# Altium footprint library GCMPCBLibrerias.PcbLib: 43 footprints (part 1 of 3)
Each footprint in its own frame and in the unit in brackets; x right, y up, seen from the top. Pads: shape width x height; smd on the part's side, far side on the other; paste and mask are expansions set on the pad; w line width, h text height; cw(c..) or ccw(c..) is an arc to the next point about the centre after c.
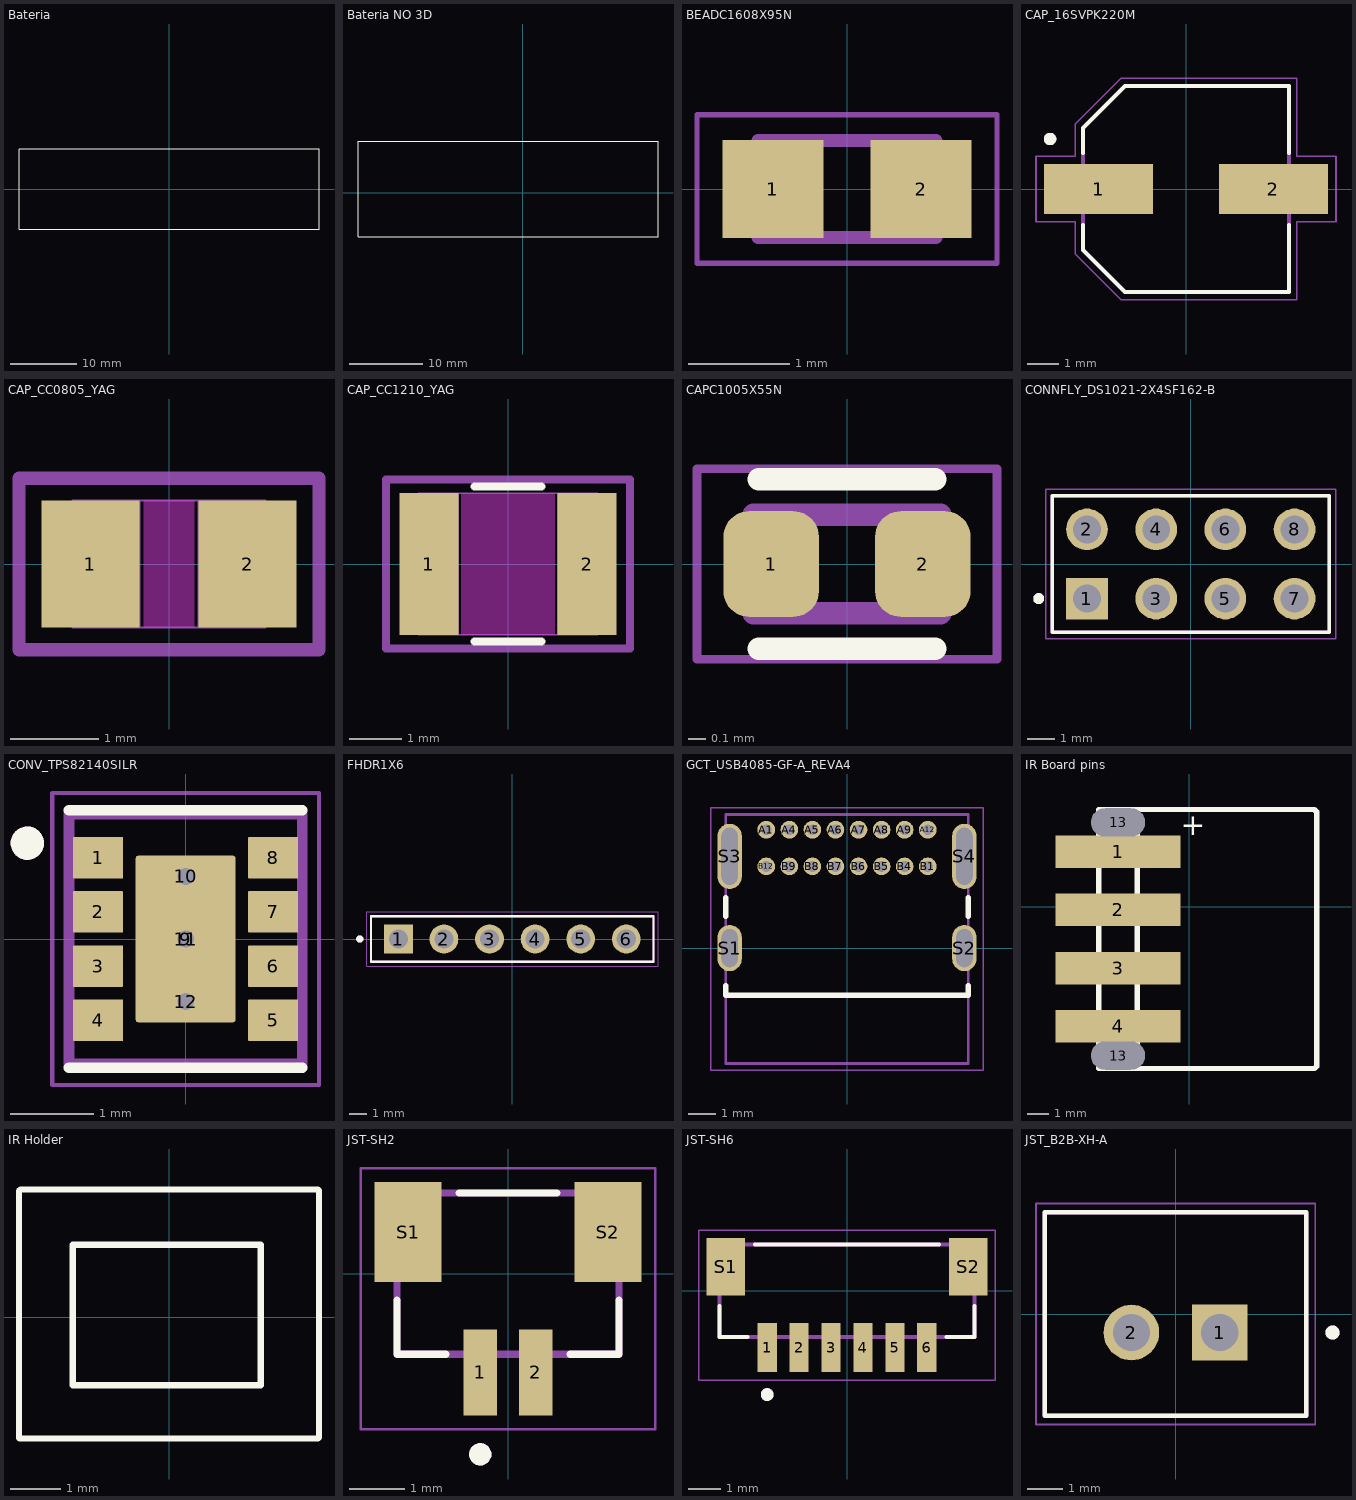
[diagram p0: the footprints below, top view; thin cyan lines are the x and y axes]

## Bateria [mm]
Top Overlay:
  lines w0.127: -22.5,-6.002 22.5,-6.002 22.5,5.998 ; -22.5,-6 -22.5,6 ; -22.5,6.063 22.5,6.063
3D body "Bateria.stp": height 16, standoff 0, extent -22.521,-5.937 22.479,6.063

## Bateria NO 3D [mm]
Top Overlay:
  lines w0.127: -22.5,-6.002 18.5,-6.002 18.5,6.998 -22.5,6.998 -22.5,-6.002

## BEADC1608X95N [mm]
pads (2):
  rect 1x0.97 smd: 1(-0.735,0) 2(0.735,0)
Mechanical 13:
  lines w0.127: -0.88,-0.48 0.88,-0.48 0.88,0.48 -0.88,0.48 -0.88,-0.48
Mechanical 15:
  lines w0.05: -1.485,-0.735 1.485,-0.735 1.485,0.735 -1.485,0.735 -1.485,-0.735
3D body "step_temp.STEP": height 0.95, standoff 0, extent -0.8,-0.4 0.8,0.4

## CAP_16SVPK220M [mm]
height 5.9
pads (2):
  rect 3.5x1.6 smd: 1(-2.8,0) 2(2.8,0)
Top Overlay:
  circle w0.2: c-4.35,1.6 r0.1
  lines w0.127: -3.3,-1.15 -3.3,-1.95 -1.95,-3.3 3.3,-3.3 3.3,-1.15 ; -3.3,1.15 -3.3,1.95 -1.95,3.3 3.3,3.3 3.3,1.15
Mechanical 13:
  circle w0.2: c-4.35,1.6 r0.1
  lines w0.127: -3.3,-1.95 -1.95,-3.3 3.3,-3.3 3.3,3.3 -1.95,3.3 -3.3,1.95 -3.3,-1.95
Mechanical 15:
  lines w0.05: -4.8,-1.05 -3.55,-1.05 -3.55,-2.075 -2.075,-3.55 3.55,-3.55 3.55,-1.05 4.8,-1.05 4.8,1.05 3.55,1.05 3.55,3.55 -2.075,3.55 -3.55,2.075 -3.55,1.05 -4.8,1.05 -4.8,-1.05
3D body "16SVPK220M.STEP": height 5.9, standoff 0, extent -3.617,-3.298 3.683,3.302

## CAP_CC0805_YAG [mil]
pads (2):
  rect 44x57 smd paste+0 mask+0: 1(-35.31,0) 2(35.31,0)
Top Layer keep-out:
  region: -11.31,-26.5 -11.31,26.5 11.31,26.5 11.31,-26.5
Keep-Out Layer:
  region: -11.31,-28.5 -11.31,28.5 11.31,28.5 11.31,-28.5
Mechanical 13:
  lines w1: -43.31,-28.5 -43.31,28.5 ; -43.31,-28.5 -13.31,-28.5 -13.31,28.5 -43.31,28.5 ; -43.31,-28.5 43.31,-28.5 ; -43.31,-28.5 -43.31,28.5 ; -43.31,28.5 43.31,28.5 ; 43.31,-28.5 13.31,-28.5 13.31,28.5 43.31,28.5 ; 43.31,-28.5 43.31,28.5 ; 43.31,-28.5 43.31,28.5
Mechanical 15:
  lines w6: -67.31,-38.5 -67.31,38.5 67.31,38.5 67.31,-38.5 -67.31,-38.5
3D body "CAP_CC0805_YAG.step": height 57.01, standoff 0, extent -43.31,-28.5 43.31,28.5

## CAP_CC1210_YAG [mil]
pads (2):
  rect 44x106 smd paste+0 mask+0: 1(-59,0) 2(59,0)
Top Layer keep-out:
  region: -35,-51 -35,51 35,51 35,-51
Top Overlay:
  lines w6: -24.89,-58 24.89,-58 ; -24.89,58 24.89,58
Keep-Out Layer:
  region: -35,-53 -35,53 35,53 35,-53
Mechanical 13:
  lines w1: -67,-53 -67,53 ; -67,-53 67,-53 ; -67,-53 -37,-53 -37,53 -67,53 ; -67,-53 -67,53 ; -67,53 67,53 ; 67,-53 67,53 ; 67,-53 67,53 ; 67,-53 37,-53 37,53 67,53
Mechanical 15:
  lines w6: -91,-63 91,-63 91,63 -91,63 -91,-63
3D body "CAP_CC1210_YAG.step": height 105.98, standoff 0, extent -67.01,-52.99 67.01,52.99

## CAPC1005X55N [mm]
pads (2):
  rrect53% 0.54x0.6 smd: 1(-0.43,0) 2(0.43,0)
Top Overlay:
  lines w0.127: -0.5,-0.48 0.5,-0.48 ; -0.5,0.48 0.5,0.48
Mechanical 13:
  lines w0.127: -0.53,-0.28 0.53,-0.28 0.53,0.28 -0.53,0.28 -0.53,-0.28
Mechanical 15:
  lines w0.05: -0.85,-0.54 0.85,-0.54 0.85,0.54 -0.85,0.54 -0.85,-0.54
3D body "step_temp.STEP": height 0.55, standoff 0, extent -0.5,-0.25 0.5,0.25

## CONNFLY_DS1021-2X4SF162-B [mm]
pads (8):
  rect 1.53x1.53 / inner round 1.53 / far side rect 1.53x1.53 hole 1.02 mask+0.102: 1(-3.81,-1.27)
  round 1.53 hole 1.02 mask+0.102: 2(-3.81,1.27) 3(-1.27,-1.27) 4(-1.27,1.27) 5(1.27,-1.27) 6(1.27,1.27) 7(3.81,-1.27) 8(3.81,1.27)
Top Overlay:
  circle w0.2: c-5.58,-1.27 r0.1
  lines w0.127: -5.08,-2.5 5.08,-2.5 5.08,2.5 -5.08,2.5 -5.08,-2.5
Mechanical 13:
  circle w0.2: c-5.58,-1.27 r0.1
  lines w0.127: -5.08,-2.5 -5.08,2.5 5.08,2.5 5.08,-2.5 -5.08,-2.5
Mechanical 15:
  lines w0.05: -5.33,-2.75 -5.33,2.75 5.33,2.75 5.33,-2.75 -5.33,-2.75
3D body "step_temp.STEP": height 7.5, standoff -3, extent -5.08,-2.5 5.08,2.5

## CONV_TPS82140SILR [mm]
pads (12):
  rrect5% 0.6x0.5 smd paste-1 mask+0: 1(-1.05,0.975) 2(-1.05,0.325) 3(-1.05,-0.325) 4(-1.05,-0.975) 5(1.05,-0.975) 6(1.05,-0.325) 7(1.05,0.325) 8(1.05,0.975)
  rrect5% 1.2x2 smd paste-2 mask+0: 9(0,0)
  round 0.45 hole 0.2 mask+0: 10(0,0.75) 11(0,0) 12(0,-0.75)
Top Overlay:
  circle w0.2: c-1.9,1.15 r0.1
  lines w0.127: -1.4,-1.545 1.4,-1.545 ; -1.4,1.545 1.4,1.545
Top Paste:
  drawing of 10 lines, arcs and shapes, not listed
Top Solder:
  drawing of 9 lines, arcs and shapes, not listed
Mechanical 13:
  circle w0.2: c-1.9,1.15 r0.1
  lines w0.127: -1.4,-1.5 -1.4,1.5 1.4,1.5 1.4,-1.5 -1.4,-1.5
Mechanical 15:
  lines w0.05: -1.6,-1.75 -1.6,1.75 1.6,1.75 1.6,-1.75 -1.6,-1.75
3D body "step_temp.STEP": height 1.53, standoff 0, extent -1.409,-1.492 1.391,1.508

## FHDR1X6 [mm]
pads (6):
  rect 1.605x1.605 / inner round 1.605 / far side rect 1.605x1.605 hole 1.07: 1(-6.35,0)
  round 1.605 hole 1.07: 2(-3.81,0) 3(-1.27,0) 4(1.27,0) 5(3.81,0) 6(6.35,0)
Top Overlay:
  circle w0.2: c-8.5,0 r0.1
  lines w0.127: -7.87,-1.27 -7.87,1.27 7.87,1.27 7.87,-1.27 -7.87,-1.27
Mechanical 13:
  circle w0.2: c-8.5,0 r0.1
  lines w0.127: -7.87,-1.27 -7.87,1.27 7.87,1.27 7.87,-1.27 -7.87,-1.27
Mechanical 15:
  lines w0.05: -8.12,-1.52 -8.12,1.52 8.12,1.52 8.12,-1.52 -8.12,-1.52
3D body "step_temp.STEP": height 8.51, standoff -3.2, extent -7.87,-1.27 7.878,1.27

## GCT_USB4085-GF-A_REVA4 [mm]
height 3.46
pads (20):
  round 0.65 hole 0.4: A1(-2.975,4.36) A4(-2.125,4.36) A5(-1.275,4.36) A6(-0.425,4.36) A7(0.425,4.36) A8(1.275,4.36) A9(2.125,4.36) A12(2.975,4.36) B1(2.975,3.01) B4(2.125,3.01) B5(1.275,3.01) B6(0.425,3.01) B7(-0.425,3.01) B8(-1.275,3.01) B9(-2.125,3.01) B12(-2.975,3.01)
  oval 0.9x1.7 hole 0.6 slot 1.4 at 90 deg: S1(-4.325,0) S2(4.325,0)
  oval 0.9x2.4 hole 0.6 slot 2.1 at 90 deg: S3(-4.325,3.38) S4(4.325,3.38)
Top Overlay:
  lines w0.2: -4.47,-1.39 -4.47,-1.74 4.47,-1.74 4.47,-1.39 ; -4.47,1.17 -4.47,1.85 ; 4.47,1.17 4.47,1.85
Mechanical 13:
  lines w0.1: -4.47,-4.25 -4.47,-1.74 -4.47,4.92 4.47,4.92 4.47,-4.25 -4.47,-4.25
Mechanical 15:
  lines w0.05: -5.025,-4.5 -5.025,5.17 5.025,5.17 5.025,-4.5 -5.025,-4.5
3D body "step_temp.STEP": height 3.46, standoff -2.1, extent -4.47,-4.25 4.47,4.92

## IR Board pins [mm]
pads (6):
  rect 5.8x1.5 smd: 1(-3.306,2.559) 2(-3.306,-0.141) 3(-3.306,-2.841) 4(-3.306,-5.541)
  rect 1x1 hole 1.3 slot 2.5 at 0 deg: 13(-3.306,-6.891) 13(-3.306,3.909)
Top Overlay:
  lines w0.254: -2.406,-7.491 5.791,-7.491 5.894,-7.388 5.894,-6.991 5.894,-1.491 5.894,4.009 5.894,4.401 5.786,4.509 -2.406,4.509 ; -2.406,-7.491 -4.206,-7.491 -4.206,-6.291 -4.206,-1.491 -4.206,3.309 -4.206,4.509 -2.406,4.509 ; -2.406,-7.491 -2.406,-6.291 -2.406,-1.491 -2.406,3.309 -2.406,4.509
  text "+" at -0.406,3.31 h1

## IR Holder [mm]
Top Overlay:
  lines w0.127: -3.008,-2.421 -3.008,2.523 -2.976,2.554 2.976,2.554 ; -2.996,-2.434 2.976,-2.434 ; -1.934,1.447 -1.934,-1.363 1.114,-1.363 1.833,-1.363 1.833,0.245 1.833,1.425 ; -1.918,1.447 -0.394,1.447 1.833,1.447 ; 3,-2.41 3,2.531
3D body "IR (1).stp": height 10.6, standoff -1.5, extent -3.013,-2.49 2.987,2.51

## JST-SH2 [mm]
height 6.3
pads (4):
  rect 0.6x1.55 smd: 1(-0.5,-1.775) 2(0.5,-1.775)
  rect 1.2x1.8 smd: S1(-1.8,0.75) S2(1.8,0.75)
Top Overlay:
  circle w0.2: c-0.5,-3.25 r0.1
  lines w0.127: -2,-0.47 -2,-1.45 -1.12,-1.45 ; -0.88,1.45 0.88,1.45 ; 1.12,-1.45 2,-1.45 2,-0.47
Mechanical 13:
  circle w0.2: c-0.5,-3.25 r0.1
  lines w0.127: -2,-1.45 -2,1.45 2,1.45 2,-1.45 -2,-1.45
Mechanical 15:
  lines w0.05: -2.65,-2.8 2.65,-2.8 2.65,1.9 -2.65,1.9 -2.65,-2.8
3D body "step_temp.STEP": height 4.25, standoff 0, extent -2,-2.9 2,0.7

## JST-SH6 [mm]
height 6.3
pads (8):
  rect 0.6x1.55 smd: 1(-2.5,-1.775) 2(-1.5,-1.775) 3(-0.5,-1.775) 4(0.5,-1.775) 5(1.5,-1.775) 6(2.5,-1.775)
  rect 1.2x1.8 smd: S1(-3.8,0.75) S2(3.8,0.75)
Top Overlay:
  circle w0.2: c-2.5,-3.25 r0.1
  lines w0.127: -4,-0.47 -4,-1.45 -3.12,-1.45 ; -2.88,1.45 2.88,1.45 ; 3.12,-1.45 4,-1.45 4,-0.47
Mechanical 13:
  circle w0.2: c-2.5,-3.25 r0.1
  lines w0.127: -4,-1.45 -4,1.45 4,1.45 4,-1.45 -4,-1.45
Mechanical 15:
  lines w0.05: -4.65,-2.8 4.65,-2.8 4.65,1.9 -4.65,1.9 -4.65,-2.8
3D body "step_temp.STEP": height 4.25, standoff 0, extent -3.873,-2.138 4.127,1.462

## JST_B2B-XH-A [mm]
height 7
pads (2):
  rect 1.575x1.575 / inner round 1.575 / far side rect 1.575x1.575 hole 1.05: 1(1.25,-0.525)
  round 1.575 hole 1.05: 2(-1.25,-0.525)
Top Overlay:
  circle w0.2: c4.44,-0.525 r0.1
  lines w0.127: -3.7,-2.875 3.7,-2.875 3.7,2.875 -3.7,2.875 -3.7,-2.875
Mechanical 13:
  circle w0.2: c4.44,-0.525 r0.1
  lines w0.127: -3.7,-2.875 3.7,-2.875 3.7,2.875 -3.7,2.875 -3.7,-2.875
Mechanical 15:
  lines w0.05: -3.95,-3.125 -3.95,3.125 3.95,3.125 3.95,-3.125 -3.95,-3.125
3D body "B2B-XH-A.STEP": height 7, standoff -3.4, extent -3.717,-2.875 3.683,2.875